# Altium footprint library TO-220.PcbLib: 1 footprints
Each footprint in its own frame and in the unit in brackets; x right, y up, seen from the top. Pads: shape width x height; smd on the part's side, far side on the other; paste and mask are expansions set on the pad; w line width, h text height; cw(c..) or ccw(c..) is an arc to the next point about the centre after c.
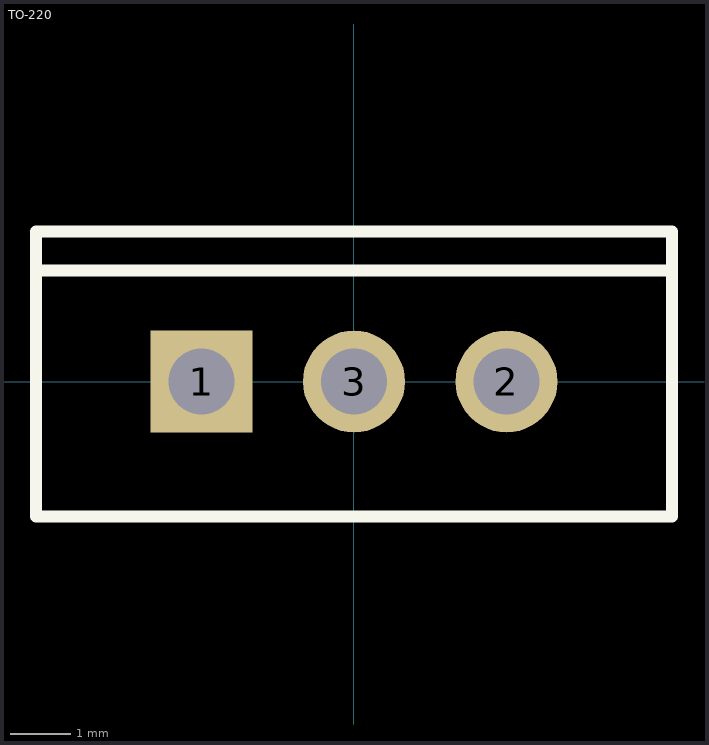
[diagram p0: the footprint, top view; thin cyan lines are the x and y axes]

## TO-220 [mm] "TO, Thru-Hole, Vertical, Heatsink Mounted; 3 In-Line Leads; Pitch 2.54 mm"
height 21.4
pads (3):
  rect 1.7x1.7 hole 1.1: 1(-2.54,0)
  round 1.7 hole 1.1: 2(2.54,0) 3(0,0)
Top Overlay:
  lines w0.2: -5.3,1.85 5.3,1.85 ; -5.3,-2.25 5.3,-2.25 5.3,2.5 -5.3,2.5 -5.3,-2.25
Mechanical 1:
  lines w0.1: -0.5,2.5 5.25,2.5 ; 5.25,2.5 5.25,-2.25 -5.25,-2.25 -5.25,2.5 5.25,2.5
3D body: height 27.8, standoff -0.98, extent -4.95,-2.1 4.95,2.4